# Altium schematic symbol library UMK105B7104KVHF.SchLib: 12 symbols
Pins are listed as number, name and electrical type; pins without a type are passive.

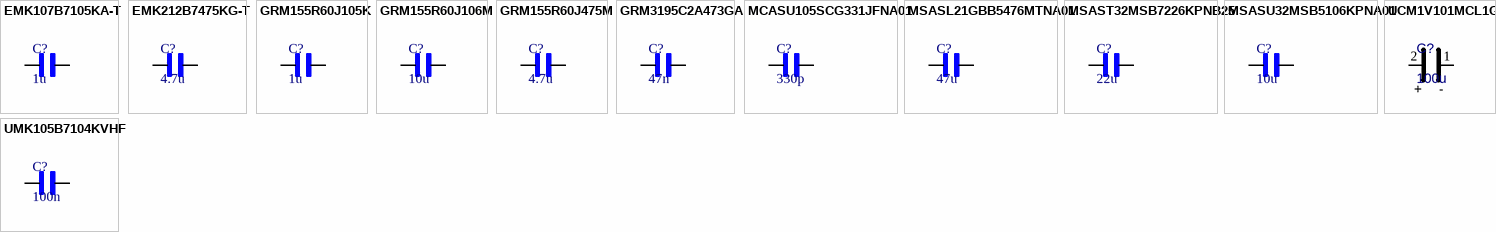
[diagram p0: symbols EMK107B7105KA-T to UMK105B7104KVHF]

## EMK107B7105KA-T
designator C?, comment 1u
CAP CER 1UF 16V X7R 0603; MF: {'manufacturer': u'Taiyo Yuden'}; MP: EMK107B7105KA-T; Package: None; Price: None; Value: *; Availability: Unavailable; Manufacturer_Part_Number: EMK107B7105KA-T
footprint RC0603N_YAG
pins: 1, 2

## EMK212B7475KG-T
designator C?, comment 4.7u
CAP CER 4.7UF 16V X7R 0805; MF: {'manufacturer': u'Taiyo Yuden'}; MP: EMK212B7475KG-T; Package: None; Price: None; Value: *; Availability: Unavailable; Manufacturer_Part_Number: EMK212B7475KG-T
footprint CAPC2012X145N
pins: 1, 2

## GRM155R60J105K
designator C?, comment 1u
CAP CER 1UF 6.3V X5R 0402; MF: {'manufacturer': u'Taiyo Yuden'}; MP: GRM155R60J105K; Package: None; Price: None; Value: *; Availability: Unavailable; Manufacturer_Part_Number: GRM155R60J105K
footprint CAPC1005X55N
pins: 1, 2

## GRM155R60J106M
designator C?, comment 10u
CAP CER 10UF 6.3V X5R 0402; MF: {'manufacturer': u'Taiyo Yuden'}; MP: GRM155R60J106M; Package: None; Price: None; Value: *; Availability: Unavailable; Manufacturer_Part_Number: GRM155R60J106M
footprint CAPC1005X55N
pins: 1, 2

## GRM155R60J475M
designator C?, comment 4.7u
CAP CER 4.7UF 6.3V X5R 0402; MF: {'manufacturer': u'Taiyo Yuden'}; MP: GRM155R60J475M; Package: None; Price: None; Value: *; Availability: Unavailable; Manufacturer_Part_Number: GRM155R60J475M
footprint CAPC1005X55N
pins: 1, 2

## GRM3195C2A473GA
designator C?, comment 47n
CAP CER 47NF 100V C0G 1206; MF: {'manufacturer': u'Taiyo Yuden'}; MP: GRM3195C2A473GA; Package: None; Price: None; Value: *; Availability: Unavailable; Manufacturer_Part_Number: GRM3195C2A473GA
footprint 3216M/1206
pins: 1, 2

## MCASU105SCG331JFNA01
designator C?, comment 330p
CAP CER 330PF 50V C0G 0402; MF: {'manufacturer': u'Taiyo Yuden'}; MP: MCASU105SCG331JFNA01; Package: None; Price: None; Value: *; Availability: Unavailable; Manufacturer_Part_Number: MCASU105SCG331JFNA01
footprint CAPC1005X55N
pins: 1, 2

## MSASL21GBB5476MTNA01
designator C?, comment 47u
CAP CER 47UF 10V X5R 0805; MF: {'manufacturer': u'Taiyo Yuden'}; MP: MSASL21GBB5476MTNA01; Package: None; Price: None; Value: *; Availability: Unavailable; Manufacturer_Part_Number: MSASL21GBB5476MTNA01
footprint CAPC2012X145N
pins: 1, 2

## MSAST32MSB7226KPNB25
designator C?, comment 22u
CAP CER 22UF 25V X7R 1210; MF: {'manufacturer': u'Taiyo Yuden'}; MP: MSAST32MSB7226KPNB25; Package: None; Price: None; Value: *; Availability: Unavailable; Manufacturer_Part_Number: MSAST32MSB7226KPNB25
footprint CAPC3225X270N
pins: 1, 2

## MSASU32MSB5106KPNA01
designator C?, comment 10u
CAP CER 10UF 50V X5R 1210; MF: {'manufacturer': u'Taiyo Yuden'}; MP: MSASU32MSB5106KPNA01; Package: None; Price: None; Value: *; Availability: Unavailable; Manufacturer_Part_Number: MSASU32MSB5106KPNA01
footprint CAPC3225X270N
pins: 1, 2

## UCM1V101MCL1GS
designator C?, comment 100u
100uF 35V; Manufacturer_Part_Number: UCM1V101MCL1GS
footprint NICHICON63
pins: 1, 2
text: +; -

## UMK105B7104KVHF
designator C?, comment 100n
CAP CER 0.1UF 50V X7R 0402; MF: {'manufacturer': u'Taiyo Yuden'}; MP: UMK105B7104KVHF; Package: None; Price: None; Value: *; Availability: Unavailable; Manufacturer_Part_Number: UMK105B7104KVHF
footprint CAPC1005X55N
pins: 1, 2